# Altium schematic symbol library AUV3-SQ32-0RT0K.SchLib: 1 symbol
Pins are listed as number, name and electrical type; pins without a type are passive.

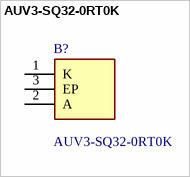
[diagram p0: symbol AUV3-SQ32-0RT0K]

## AUV3-SQ32-0RT0K
designator B?
High Power LEDs - Single Colour 3W 3535, 35deg, 365nm; Manufacturer_Name: Avago Technologies; Geometry.Height: 3.25mm; Mouser Part Number: 630-AUV3-SQ32-0RT0K; Mouser Price/Stock: https://www.mouser.co.uk/ProductDetail/Broadcom-Avago/AUV3-SQ32-0RT0K?qs=T94vaHKWudTB4UL7ek5Qww%3D%3D; Manufacturer_Part_Number: AUV3-SQ32-0RT0K; Datasheet Link: https://docs.broadcom.com/doc/AUV3-Sxx2-0xx0K-3W-3535-SMT-UV-LED-DS
footprint AUV3SQ320RT0K
pins: 1 K, 2 A, 3 EP